# Altium schematic symbol library SCH - POWER - SWITCHMODE - ANALOG DEVICES MAX17542G.SCHLIB: 1 symbol
Pins are listed as number, name and electrical type; pins without a type are passive.

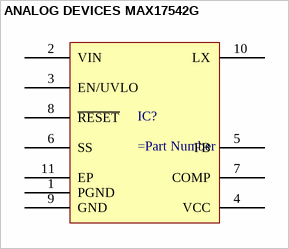
[diagram p0: symbol ANALOG DEVICES MAX17542G]

## ANALOG DEVICES MAX17542G
designator IC?
pins: 1 PGND, 2 VIN, 3 EN/UVLO, 4 VCC, 5 FB, 6 SS, 7 COMP, 8 ~{RESET}, 9 GND, 10 LX, 11 EP